# Altium footprint library VAR_LITTELFUSE_V14D.PcbLib: 1 footprints
Each footprint in its own frame and in the unit in brackets; x right, y up, seen from the top. Pads: shape width x height; smd on the part's side, far side on the other; paste and mask are expansions set on the pad; w line width, h text height; cw(c..) or ccw(c..) is an arc to the next point about the centre after c.
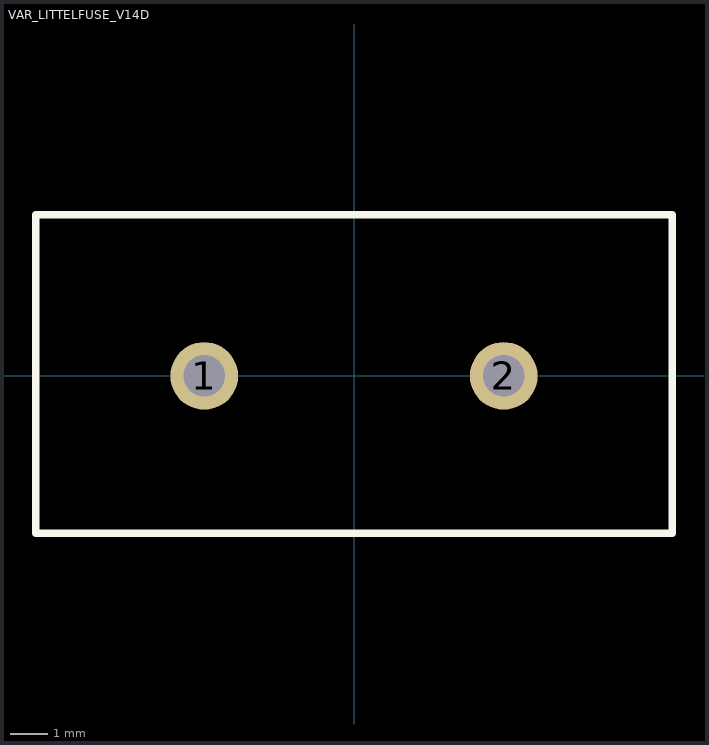
[diagram p0: the footprint, top view; thin cyan lines are the x and y axes]

## VAR_LITTELFUSE_V14D [mm] "VARISTOR DIAMETR 14mm"
height 20
pads (2):
  round 1.81 hole 1.11: 1(-4,0) 2(4,0)
Top Overlay:
  lines w0.2: -8.5,-4.2 -8.5,4.3 0,4.3 8.5,4.3 8.5,-4.2 -8.5,-4.2
3D body: height 19.5, standoff 2.5, extent -8.5,-4.2 8.5,4.3